# Altium footprint library SmartDevice.PcbLib: 4 footprints
Each footprint in its own frame and in the unit in brackets; x right, y up, seen from the top. Pads: shape width x height; smd on the part's side, far side on the other; paste and mask are expansions set on the pad; w line width, h text height; cw(c..) or ccw(c..) is an arc to the next point about the centre after c.
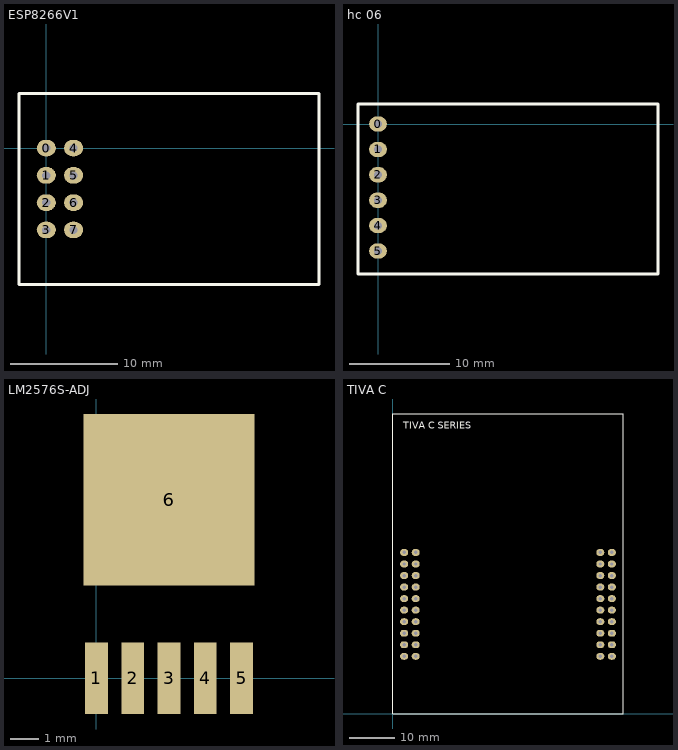
[diagram p0: the footprints below, top view; thin cyan lines are the x and y axes]

## ESP8266V1 [mil]
pads (8):
  oval 70x60 hole 30: 0(0,0) 1(0,-100) 2(0,-200) 3(0,-300) 4(100,0) 5(100,-100) 6(100,-200) 7(100,-300)
Top Overlay:
  lines w10: -100,-500 -100,-400 -100,100 -100,200 1000,200 1000,-500 600,-500 -100,-500

## hc 06 [mil]
pads (6):
  oval 70x60 hole 30: 0(0,0) 1(0,-100) 2(0,-200) 3(0,-300) 4(0,-400) 5(0,-500)
Top Overlay:
  lines w10: -78.74,-590.55 1102.36,-590.55 1102.36,78.74 -78.74,78.74 -78.74,0 -78.74,-590.55

## LM2576S-ADJ [mm]
pads (6):
  rect 0.8x2.5 smd: 1(0,0) 2(1.27,0) 3(2.54,0) 4(3.81,0) 5(5.08,0)
  rect 6x6 smd: 6(2.54,6.25)

## TIVA C [mil]
pads (40):
  oval 70x60 hole 30: 0(100,1400) 1(100,1300) 2(100,1200) 3(100,1100) 4(100,1000) 5(100,900) 6(100,800) 7(100,700) 8(100,600) 9(100,500) 10(200,1400) 11(200,1300) 12(200,1200) 13(200,1100) 14(200,1000) 15(200,900) 16(200,800) 17(200,700) 18(200,600) 19(200,500) 20(1900,1400) 21(1900,1300) 22(1900,1200) 23(1900,1100) 24(1900,1000) 25(1900,900) 26(1900,800) 27(1900,700) 28(1900,600) 29(1900,500) 30(1800,1400) 31(1800,1300) 32(1800,1200) 33(1800,1100) 34(1800,1000) 35(1800,900) 36(1800,800) 37(1800,700) 38(1800,600) 39(1800,500)
Top Overlay:
  lines w10: 0,0 0,2600 2000,2600 2000,0 0,0
  text "TIVA C SERIES" at 90,2470.01 h60